# EAGLE library part MC100EPT20DTG (library ON Semiconductor_By_element14_Batch_1)
TTL-CMOS-Differential-ECL-Translator
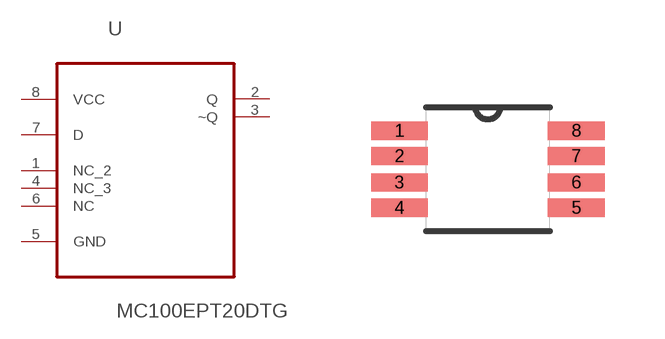
[diagram p130: symbol with the pads of SOP65P490X110-8N; footprint SOP65P490X110-8N]

Designator prefix U

## MC100EPT20DTG (P1I: o), MC100EPT20DTGTTL-CMOS-DIFFERENTIAL-ECL-TRANSLATOR (MPN: MC100EPT20DTG; OC_FARNELL: 1192076; OC_NEWARK: 45J0922; P1I: o; PACKAGE: TSSOP-8; SUPPLIER: On Semiconductor)  [SOP65P490X110-8N]
1  NC_2  nc
2  Q  out
3  ~Q  out
4  NC_3  nc
5  GND  pas
6  NC  nc
7  D  in
8  VCC  pwr

## Footprint SOP65P490X110-8N (pad centres in mm)
smd 1.422 x 0.457: 1 -2.21,0.965; 2 -2.21,0.33; 3 -2.21,-0.33; 4 -2.21,-0.965; 5 2.21,-0.965; 6 2.21,-0.33; 7 2.21,0.33; 8 2.21,0.965